# Altium schematic symbol library LABLIB.SchLib: 54 symbols
Pins are listed as number, name and electrical type; pins without a type are passive.

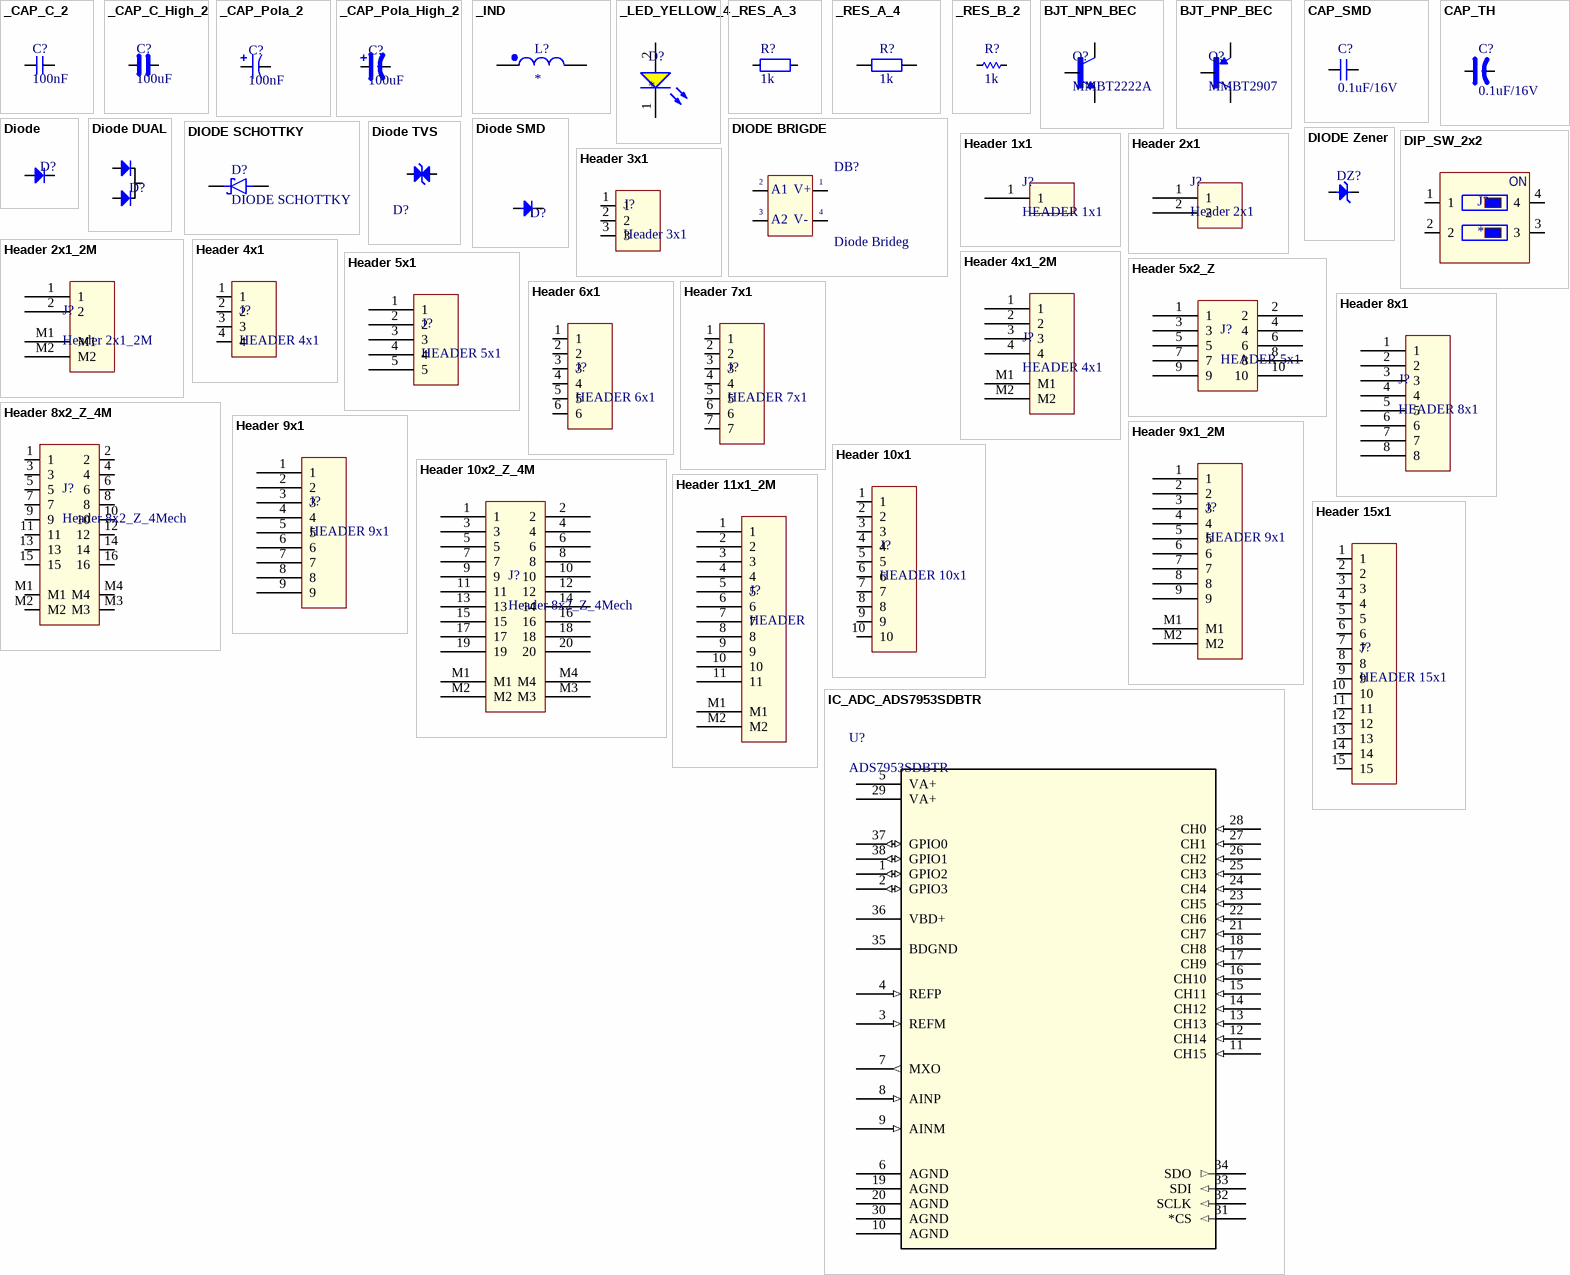
[diagram p0: symbols _CAP_C_2 to IC_ADC_ADS7953SDBTR]

## _CAP_C_2
designator C?, comment 100nF
CAP CHIP
footprint CAP_C_1005X60
footprint CAP_C_1608X80 (Chip Capacitor, 2-Leads, Body 1.60x0.80mm, IPC Medium Density)
footprint CAP_C_2012X110 (Chip Capacitor, 2-Leads, Body 2.00x1.25mm, IPC High Density)
footprint CAP_C_3216X140 (Chip Capacitor, 2-Leads, Body 3.20x1.60mm, IPC High Density)
footprint CAP_C_3225X80 (Chip Capacitor, 2-Leads, Body 3.20x2.50mm, IPC Medium Density)
pins: 1, 2

## _CAP_C_High_2
designator C?, comment 100uF
CAP CHIP High Value
footprint CAP_C_1005X60
footprint CAP_C_1608X80 (Chip Capacitor, 2-Leads, Body 1.60x0.80mm, IPC Medium Density)
footprint CAP_C_2012X110 (Chip Capacitor, 2-Leads, Body 2.00x1.25mm, IPC High Density)
footprint CAP_C_3216X140 (Chip Capacitor, 2-Leads, Body 3.20x1.60mm, IPC High Density)
footprint CAP_C_3225X80 (Chip Capacitor, 2-Leads, Body 3.20x2.50mm, IPC Medium Density)
pins: 1, 2

## _CAP_Pola_2
designator C?, comment 100nF
CAP Polarization
footprint CAP_MP_1608X90 (Molded Capacitor, 2-Leads, Body 1.60x0.85mm, IPC Medium Density)
footprint CAP_MP_2012X170 (Molded Capacitor, 2-Leads, Body 2.05x1.40mm, IPC Medium Density)
pins: 1, 2

## _CAP_Pola_High_2
designator C?, comment 100uF
CAP Polarization High Value
footprint CAP_MP_3216X180 (Molded Capacitor, 2-Leads, Body 3.20x1.65mm, IPC Medium Density)
footprint CAP_MP_1608X90 (Molded Capacitor, 2-Leads, Body 1.60x0.85mm, IPC Medium Density)
footprint CAP_MP_2012X170 (Molded Capacitor, 2-Leads, Body 2.05x1.40mm, IPC Medium Density)
footprint CAP_MP_3528X210 (Molded Capacitor, 2-Leads, Body 3.50x2.85mm, IPC Medium Density)
pins: 1, 2

## _IND
designator L?
pins: 1, 2

## _LED_YELLOW_4
designator D?
footprint LED_0603
pins: 1 K, 2 A

## _RES_A_3
designator R?, comment 1k
RES
footprint RES_C_1608X60 (Chip Resistor, 2-Leads, Body 1.63x0.83mm, IPC High Density)
footprint RES_C_1005X40
footprint RES_C_2012X65 (Chip Resistor, 2-Leads, Body 2.00x1.25mm, IPC High Density)
footprint RES_C_3216X70 (Chip Resistor, 2-Leads, Body 3.20x1.60mm, IPC Medium Density)
pins: 1, 2

## _RES_A_4
designator R?, comment 1k
RES
footprint RES_C_1608X60 (Chip Resistor, 2-Leads, Body 1.63x0.83mm, IPC High Density)
footprint RES_C_1005X40
footprint RES_C_2012X65 (Chip Resistor, 2-Leads, Body 2.00x1.25mm, IPC High Density)
footprint RES_C_3216X70 (Chip Resistor, 2-Leads, Body 3.20x1.60mm, IPC Medium Density)
pins: 1, 2

## _RES_B_2
designator R?, comment 1k
RES
footprint RES_C_1005X40
footprint RES_C_1608X60 (Chip Resistor, 2-Leads, Body 1.63x0.83mm, IPC High Density)
footprint RES_C_2012X65 (Chip Resistor, 2-Leads, Body 2.00x1.25mm, IPC High Density)
footprint RES_C_3216X70 (Chip Resistor, 2-Leads, Body 3.20x1.60mm, IPC Medium Density)
pins: 1, 2

## BJT_NPN_BEC
designator Q?, comment MMBT2222A
MF: Diotec Semiconductor; SnapEDA_Link: https://www.snapeda.com/parts/MMBT2222A/Diotec/view-part/?ref=snap; Package: SOT-23 Diotec; Value: *; MP: MMBT2222A; Check_prices: https://www.snapeda.com/parts/MMBT2222A/Diotec/view-part/?ref=eda
footprint SOT95P240X120-3N
pins: 1 B, 2 E, 3 C

## BJT_PNP_BEC
designator Q?, comment MMBT2907
MF: Diotec Semiconductor; MP: MMBT2222A; SnapEDA_Link: https://www.snapeda.com/parts/MMBT2222A/Diotec/view-part/?ref=snap; Package: SOT-23 Diotec; Value: *; Check_prices: https://www.snapeda.com/parts/MMBT2222A/Diotec/view-part/?ref=eda
footprint SOT95P240X120-3N
pins: 1 B, 2 E, 3 C

## CAP_SMD
designator C?, comment 0.1uF/16V
CAP_Chip; Value: 33pF
pins: 1, 2

## CAP_TH
designator C?, comment 0.1uF/16V
CAP_Polarization; Published: 8-Jun-2000; LatestRevisionDate: 17-Jul-2002; LatestRevisionNote: Re-released for DXP Platform.; PackageReference: POLAR0.8; Publisher: Altium Limited
pins: 1, 2
1 alternate drawing of the same symbol

## Diode
designator D?  (value not drawn)
Default Diode; Code - JEDEC: DO-214-AB; Value: 1N5007; Published: 8-Jun-2000; Revision: July-2002: Re-released for DXP Platform.; Publisher: Altium Limited
footprint DIO-1A
footprint DIO-0.5A-SMALL (Diode muoi, W 80mil, L 300mil)
footprint DIO-1A-SMALL (Diode 1A, W 100mil, L 350mil)
footprint DIO-2A (Diode 2A, W 150mil, L 450mil)
footprint DIO-5A (Diode 5A, W 200mil, L 550mil)
footprint DIO-5AN (Diode 5A, W 200mil, L 250mil)
footprint DIO-1AN (Diode 1A, W 100mil, L 150mil)
footprint DIO-3A (Diode 3A)
footprint DIO-2A - LONG (Diode 2A, W 150mil, L 450mil)
footprint DIO-2AN (Diode 2A, W 150mil, L 450mil)
footprint DIO-5A - LONG (Diode 5A, W 200mil, L 550mil)
footprint DIO-7A-SMALL (Diode 7A)
pins: 1 A, 2 K

## DIODE BRIGDE
designator DB?, comment Diode Brideg
Convert AC to DC voltage, 4 pin; Value: Cau 1A
footprint DIO-Bri 5A (Brigde 5A)
footprint DIO-Bri 1A
footprint DIO-Bri 2A (CAU 2A DET)
footprint DIO-BRI 35A (35A/1000V)
footprint DIO-Bri 10A (Brigde 10A)
footprint DIO-Bri 6A (Brigde 6A)
footprint DIO-Bri 8A (Brigde 8A)
footprint MB6S
pins: 1 +V OUT, 2 AC1, 3 AC2, 4 -V OUT
text: A1; V+; A2; V-

## Diode DUAL
designator D?  (value not drawn)
Default Diode; Code - JEDEC: DO-214-AB; Value: 1N5007; Published: 8-Jun-2000; Revision: July-2002: Re-released for DXP Platform.; Publisher: Altium Limited
footprint TO252-123
footprint TO220H2 (TO-220 - 1-2-3)
footprint TO220H1 (TO-220 - 1-2-3)
footprint TO220H3 (TO-220 1-2-3)
footprint TO247
footprint TO220-123 (TO-220 - 1-2-3)
footprint TO247+LageHeatsink
pins: 1, 2, 3

## DIODE SCHOTTKY
designator D?
pins: 1 K, 2 A

## Diode SMD
designator D?
Default Diode; Code - JEDEC: DO-214-AB; Value: 1N5007; Published: 8-Jun-2000; Revision: July-2002: Re-released for DXP Platform.; Publisher: Altium Limited
footprint DIO-SMD-106
footprint DIO-SMD-123
footprint DIO-SMD-A
footprint DIO-SMD-B (Magnetic-Core Inductor with Winding Polarity Marking; 2 Leads)
footprint DIO-SMD-216AA (DO216AA ST-MITE)
footprint DIO-SMD-222AA (DO216AA ST-MITE)
footprint DIO-SMD-C
footprint DIO-SMD-323
pins: 1 A, 2 K

## Diode TVS
designator D?
TVS Diode; Code - JEDEC: DO-214-AB; Value: 1N5007; Published: 8-Jun-2000; Revision: July-2002: Re-released for DXP Platform.; Publisher: Altium Limited
footprint DIO-SMD-106
footprint DIO-SMD-123
footprint DIO-SMD-A
footprint DIO-SMD-B (Magnetic-Core Inductor with Winding Polarity Marking; 2 Leads)
footprint DIO-SMD-216AA (DO216AA ST-MITE)
footprint DIO-SMD-222AA (DO216AA ST-MITE)
footprint DIO-SMD-C
footprint DIO-SMD-323
pins: 1 A, 2 K

## DIODE Zener
designator DZ?
Zenner
footprint DIO-0.5A-SMALL (Diode muoi, W 80mil, L 300mil)
footprint DIO-1A
footprint DIO-1A-SMALL (Diode 1A, W 100mil, L 350mil)
footprint DIO-1AN (Diode 1A, W 100mil, L 150mil)
footprint DIO-2A (Diode 2A, W 150mil, L 450mil)
footprint DIO-2A - LONG (Diode 2A, W 150mil, L 450mil)
footprint DIO-1A-ZEN (Diode 1A, W 100mil, L 350mil)
footprint DIO-2A-ZEN
pins: 1 A, 2 K

## DIP_SW_2x2
designator J?
pins: 1, 2, 3, 4
text: ON

## Header 1x1
designator J?, comment HEADER 1x1
pins: 1

## Header 2x1
designator J?
footprint JST_B2B-XH-A
footprint JP2-D1T
pins: 1, 2

## Header 2x1_2M
designator J?
footprint JST_B2B-XH-A
footprint JP2-D1T
pins: 1, 2, M1, M2

## Header 3x1
designator J?
pins: 1, 2, 3

## Header 4x1
designator J?, comment HEADER 4x1
pins: 1, 2, 3, 4

## Header 4x1_2M
designator J?, comment HEADER 4x1
pins: 1, 2, 3, 4, M1, M2

## Header 5x1
designator J?, comment HEADER 5x1
pins: 1, 2, 3, 4, 5

## Header 5x2_Z
designator J?, comment HEADER 5x1
pins: 1, 2, 3, 4, 5, 6, 7, 8, 9, 10

## Header 6x1
designator J?, comment HEADER 6x1
pins: 1, 2, 3, 4, 5, 6

## Header 7x1
designator J?, comment HEADER 7x1
pins: 1, 2, 3, 4, 5, 6, 7

## Header 8x1
designator J?, comment HEADER 8x1
pins: 1, 2, 3, 4, 5, 6, 7, 8

## Header 8x2_Z_4M
designator J?, comment Header 8x2_Z_4Mech
Header 8x2 Zigzag pin_4Mech
pins: 1, 2, 3, 4, 5, 6, 7, 8, 9, 10, 11, 12, 13, 14, 15, 16, M1, M2, M3, M4

## Header 9x1
designator J?, comment HEADER 9x1
pins: 1, 2, 3, 4, 5, 6, 7, 8, 9

## Header 9x1_2M
designator J?, comment HEADER 9x1
pins: 1, 2, 3, 4, 5, 6, 7, 8, 9, M1, M2

## Header 10x1
designator J?, comment HEADER 10x1
pins: 1, 2, 3, 4, 5, 6, 7, 8, 9, 10

## Header 10x2_Z_4M
designator J?, comment Header 8x2_Z_4Mech
Header 8x2 Zigzag pin_4Mech
pins: 1, 2, 3, 4, 5, 6, 7, 8, 9, 10, 11, 12, 13, 14, 15, 16, 17, 18, 19, 20, M1, M2, M3, M4

## Header 11x1_2M
designator J?, comment HEADER
pins: 1, 2, 3, 4, 5, 6, 7, 8, 9, 10, 11, M1, M2

## Header 15x1
designator J?, comment HEADER 15x1
pins: 1, 2, 3, 4, 5, 6, 7, 8, 9, 10, 11, 12, 13, 14, 15

## IC_ADC_ADS7953SDBTR
designator U?, comment ADS7953SDBTR
12-Bit, 1-MSPS, 16-Channel, Single-Ended, microPower SAR ADC with Serial I/F 38-TSSOP -40 to 125; Manufacturer_Name: Texas Instruments; Copyright: Copyright (C) 2025 Ultra Librarian. All rights reserved.; Manufacturer_Part_Number: ADS7953SDBTR; Datasheet: https://www.ti.com/lit/gpn/ads7953; RefDes: RefDes; Type: Type
footprint DBT38
pins: 1 GPIO2 (io), 2 GPIO3 (io), 3 REFM (in), 4 REFP (in), 5 VA+ (power), 6 AGND (power), 7 MXO (out), 8 AINP (in), 9 AINM (in), 10 AGND (power), 11 CH15 (in), 12 CH14 (in), 13 CH13 (in), 14 CH12 (in), 15 CH11 (in), 16 CH10 (in), 17 CH9 (in), 18 CH8 (in), 19 AGND (power), 20 AGND (power), 21 CH7 (in), 22 CH6 (in), 23 CH5 (in), 24 CH4 (in), 25 CH3 (in), 26 CH2 (in), 27 CH1 (in), 28 CH0 (in), 29 VA+ (power), 30 AGND (power), 31 *CS (in), 32 SCLK (in), 33 SDI (in), 34 SDO (out), 35 BDGND (power), 36 VBD+ (power), 37 GPIO0 (io), 38 GPIO1 (io)

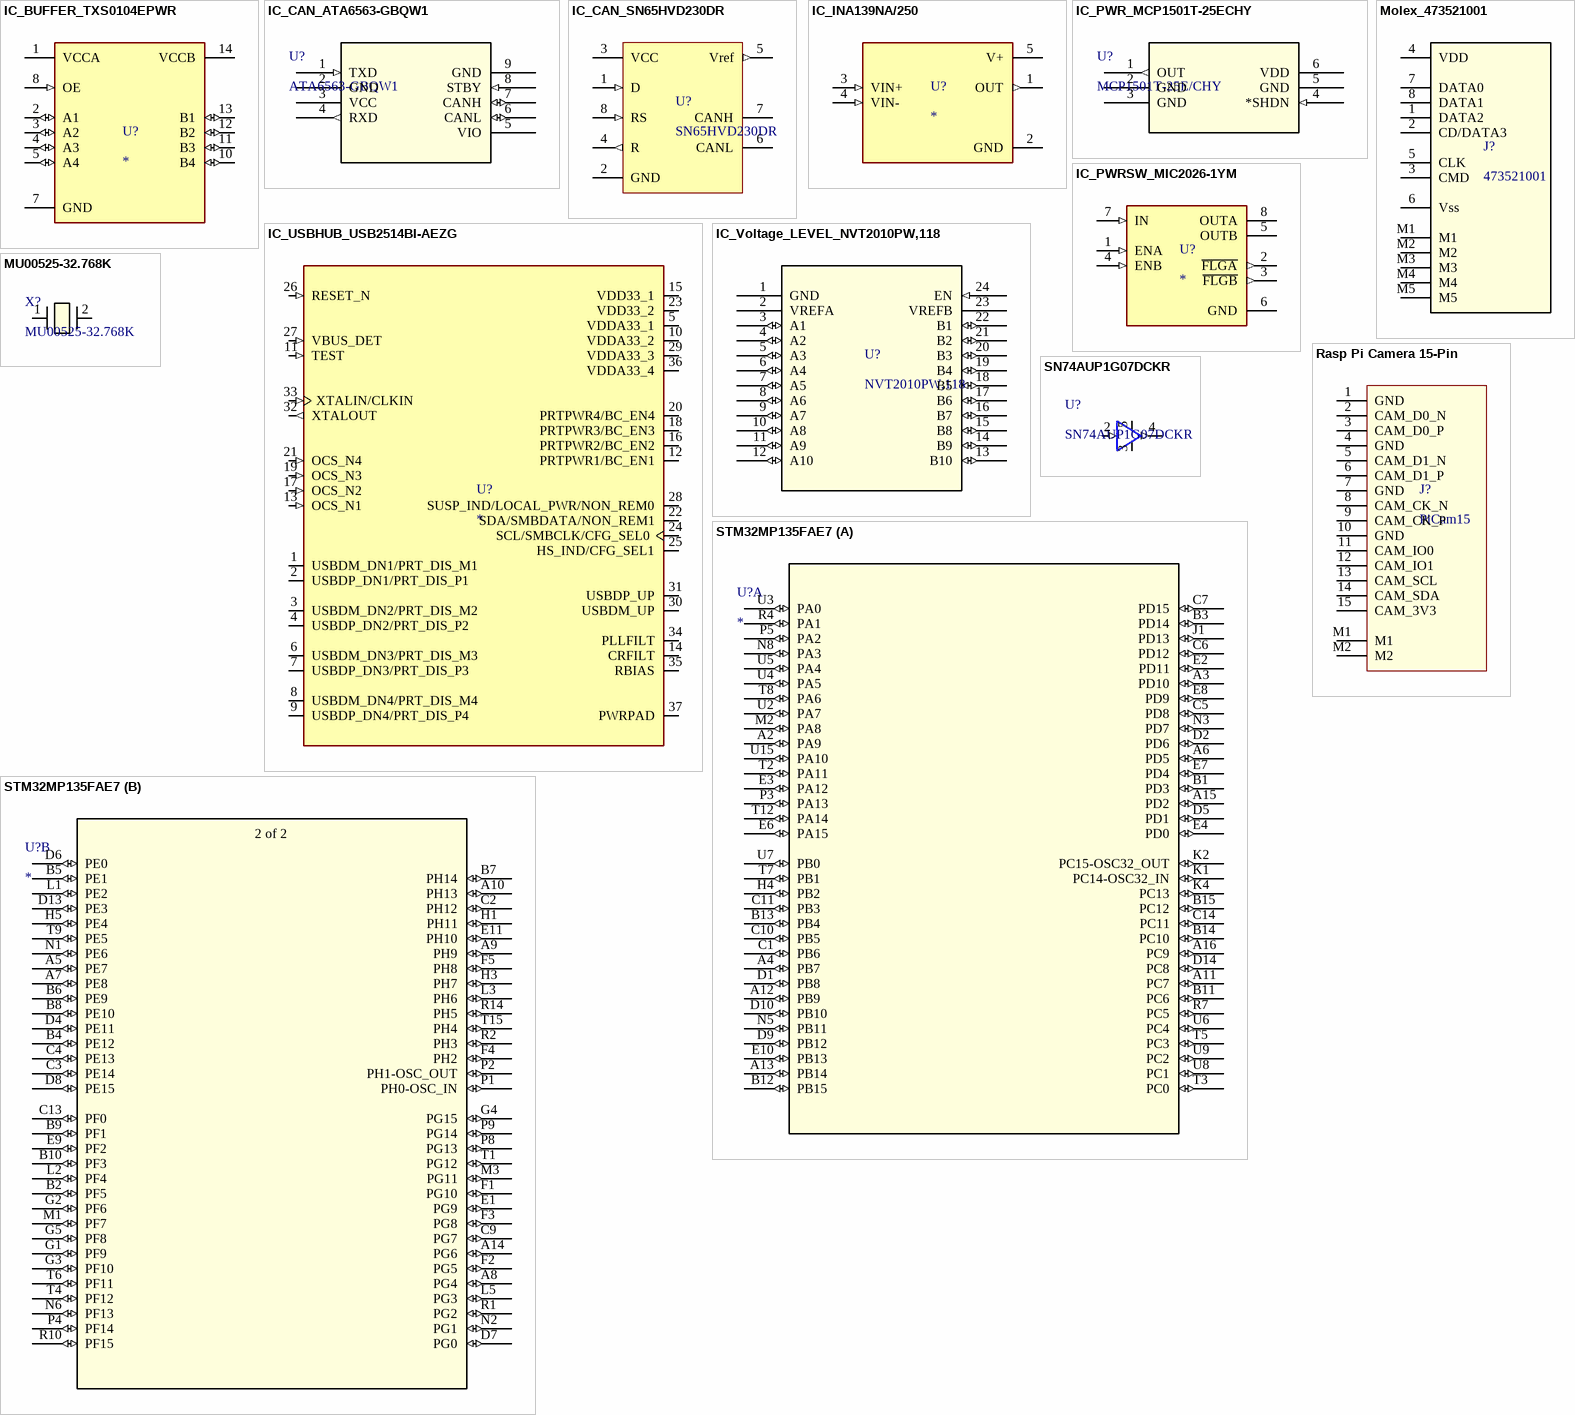
[diagram p1: symbols IC_BUFFER_TXS0104EPWR to STM32MP135FAE7]

## IC_BUFFER_TXS0104EPWR
designator U?
Four-bit bidirectional voltage-level shifter for open-drain and push-pull applications; MF: Texas Instruments; MP: TXS0104EPWR; SnapEDA_Link: https://www.snapeda.com/parts/TXS0104EPWR/Texas+Instruments/view-part/?ref=snap; Package: TSSOP-14 Texas Instruments; Value: *; Check_prices: https://www.snapeda.com/parts/TXS0104EPWR/Texas+Instruments/view-part/?ref=eda
footprint SOP65P640X120-14N
pins: 1 VCCA (power), 2 A1 (io), 3 A2 (io), 4 A3 (io), 5 A4 (io), 7 GND (power), 8 OE (in), 10 B4 (io), 11 B3 (io), 12 B2 (io), 13 B1 (io), 14 VCCB (power)

## IC_CAN_ATA6563-GBQW1
designator U?, comment ATA6563-GBQW1
No Description Available; Manufacturer_Name: Microchip; Copyright: Copyright (C) 2025 Ultra Librarian. All rights reserved.; Manufacturer_Part_Number: ATA6563-GBQW1; RefDes: RefDes; Type: Type
footprint VDFN8_3X3_GB-Q8B_MCH
pins: 1 TXD (in), 2 GND (power), 3 VCC (power), 4 RXD (out), 5 VIO (power), 6 CANL (io), 7 CANH (io), 8 STBY (in), 9 GND (power)

## IC_CAN_SN65HVD230DR
designator U?, comment SN65HVD230DR
IC TRANSCEIVER HALF 1/1 8SOIC
pins: 1 D (in), 2 GND, 3 VCC, 4 R (out), 5 Vref (out), 6 CANL, 7 CANH, 8 RS (in)

## IC_INA139NA/250
designator U?
2.7 to 36V, 440kHz Variable gain current sense amplifier; MF: Texas Instruments; MP: INA139NA/250; SnapEDA_Link: https://www.snapeda.com/parts/INA139NA/250/Texas+Instruments/view-part/?ref=snap; Package: SOT-23-5 Texas Instruments; Value: *; Check_prices: https://www.snapeda.com/parts/INA139NA/250/Texas+Instruments/view-part/?ref=eda
footprint SOT95P280X145-5N
pins: 1 OUT (out), 2 GND (power), 3 VIN+ (in), 4 VIN- (in), 5 V+ (power)

## IC_PWR_MCP1501T-25ECHY
designator U?, comment MCP1501T-25E/CHY
No Description Available; Manufacturer_Name: Microchip; Copyright: Copyright (C) 2025 Ultra Librarian. All rights reserved.; Manufacturer_Part_Number: MCP1501T-25E/CHY; RefDes: RefDes; Type: Type
footprint SOT-23_OTOTY_MCH
pins: 1 OUT (out), 2 GND (power), 3 GND (power), 4 *SHDN (in), 5 GND (power), 6 VDD (power)

## IC_PWRSW_MIC2026-1YM
designator U?
Power Switch/Driver 1:2 N-Channel 1.25A 8-SOIC; MF: Microchip; MP: MIC2026-1YM; SnapEDA_Link: https://www.snapeda.com/parts/MIC2026-1YM/Microchip/view-part/?ref=snap; Package: SO-8 Microchip; Value: *; Check_prices: https://www.snapeda.com/parts/MIC2026-1YM/Microchip/view-part/?ref=eda
footprint SOIC127P599X173-8N
pins: 1 ENA (in), 2 ~{FLGA} (out), 3 ~{FLGB} (out), 4 ENB (in), 5 OUTB, 6 GND (power), 7 IN (in), 8 OUTA

## IC_USBHUB_USB2514BI-AEZG
designator U?
USB Hub Controller USB 2.0 USB Interface 36-QFN (6x6); MF: Microchip; MP: USB2514BI-AEZG-TR; SnapEDA_Link: https://www.snapeda.com/parts/USB2514BI-AEZG-TR/Microchip/view-part/?ref=snap; Package: VQFN-36 Microchip; Value: *; Check_prices: https://www.snapeda.com/parts/USB2514BI-AEZG-TR/Microchip/view-part/?ref=eda
footprint QFN50P600X600X100-37N
pins: 1 USBDM_DN1/PRT_DIS_M1 (io), 2 USBDP_DN1/PRT_DIS_P1 (io), 3 USBDM_DN2/PRT_DIS_M2 (io), 4 USBDP_DN2/PRT_DIS_P2 (io), 5 VDDA33_1 (power), 6 USBDM_DN3/PRT_DIS_M3 (io), 7 USBDP_DN3/PRT_DIS_P3 (io), 8 USBDM_DN4/PRT_DIS_M4 (io), 9 USBDP_DN4/PRT_DIS_P4 (io), 10 VDDA33_2 (power), 11 TEST (in), 12 PRTPWR1/BC_EN1 (io), 13 OCS_N1 (in), 14 CRFILT, 15 VDD33_1 (power), 16 PRTPWR2/BC_EN2 (io), 17 OCS_N2 (in), 18 PRTPWR3/BC_EN3 (io), 19 OCS_N3 (in), 20 PRTPWR4/BC_EN4 (io), 21 OCS_N4 (in), 22 SDA/SMBDATA/NON_REM1 (io), 23 VDD33_2 (power), 24 SCL/SMBCLK/CFG_SEL0 (io), 25 HS_IND/CFG_SEL1 (io), 26 RESET_N (in), 27 VBUS_DET (in), 28 SUSP_IND/LOCAL_PWR/NON_REM0 (io), 29 VDDA33_3 (power), 30 USBDM_UP (io), 31 USBDP_UP (io), 32 XTALOUT (out), 33 XTALIN/CLKIN (in), 34 PLLFILT, 35 RBIAS, 36 VDDA33_4 (power), 37 PWRPAD (power)

## IC_Voltage_LEVEL_NVT2010PW,118
designator U?, comment NVT2010PW,118
No Description Available; Manufacturer_Name: NXP; Copyright: Copyright (C) 2025 Ultra Librarian. All rights reserved.; Manufacturer_Part_Number: NVT2010PW,118; RefDes: RefDes; Type: Type
footprint TSSOP24_SOT355-1_NXP
pins: 1 GND (power), 2 VREFA (power), 3 A1 (io), 4 A2 (io), 5 A3 (io), 6 A4 (io), 7 A5 (io), 8 A6 (io), 9 A7 (io), 10 A8 (io), 11 A9 (io), 12 A10 (io), 13 B10 (io), 14 B9 (io), 15 B8 (io), 16 B7 (io), 17 B6 (io), 18 B5 (io), 19 B4 (io), 20 B3 (io), 21 B2 (io), 22 B1 (io), 23 VREFB (power), 24 EN (in)

## Molex_473521001
designator J?, comment 473521001
1.10mm Pitch microSD Card Connector, Push-Push Type, with VSS (Supply Voltage Ground) Detect Switch, Lead-Free; Manufacturer_Name: Molex Connector Corporation; Copyright: Copyright (C) 2025 Ultra Librarian. All rights reserved.; Manufacturer_Part_Number: 473521001; Datasheet: https://www.molex.com/en-us/products/part-detail-pdf/473521001?display=pdf; RefDes: RefDes; Type: Type
footprint CON00878_8_MOL
footprint Molex_0473521001
pins: 1 DATA2, 2 CD/DATA3, 3 CMD, 4 VDD, 5 CLK, 6 Vss, 7 DATA0, 8 DATA1, M1, M2, M3, M4, M5

## MU00525-32.768K
designator X?
Description; Manufacturer_Name: NDK; Type: Crystals; Copyright: Copyright (C) 2025 Ultra Librarian. All rights reserved.; Manufacturer_Part_Number: MU00525-32.768K
footprint XTAL_MU00525_NDK
pins: 1, 2

## Rasp Pi Camera 15-Pin
designator J?, comment PiCam15
Rasp Pi Camera 15-Pin
pins: 1 GND, 2 CAM_D0_N, 3 CAM_D0_P, 4 GND, 5 CAM_D1_N, 6 CAM_D1_P, 7 GND, 8 CAM_CK_N, 9 CAM_CK_P, 10 GND, 11 CAM_IO0, 12 CAM_IO1, 13 CAM_SCL, 14 CAM_SDA, 15 CAM_3V3, M1, M2

## SN74AUP1G07DCKR
designator U?
Single 0.8-V to 3.6-V low power buffer with open-drain outputs 5-SC70 -40 to 85; Manufacturer_Name: Texas Instruments; Copyright: Copyright (C) 2025 Ultra Librarian. All rights reserved.; Manufacturer_Part_Number: SN74AUP1G07DCKR; Datasheet: https://www.ti.com/lit/gpn/sn74aup1g07; RefDes: RefDes; Type: Type
footprint DCK5
pins: 2 A (in), 3 GND (power), 4 Y (out), 5 VCC (power)

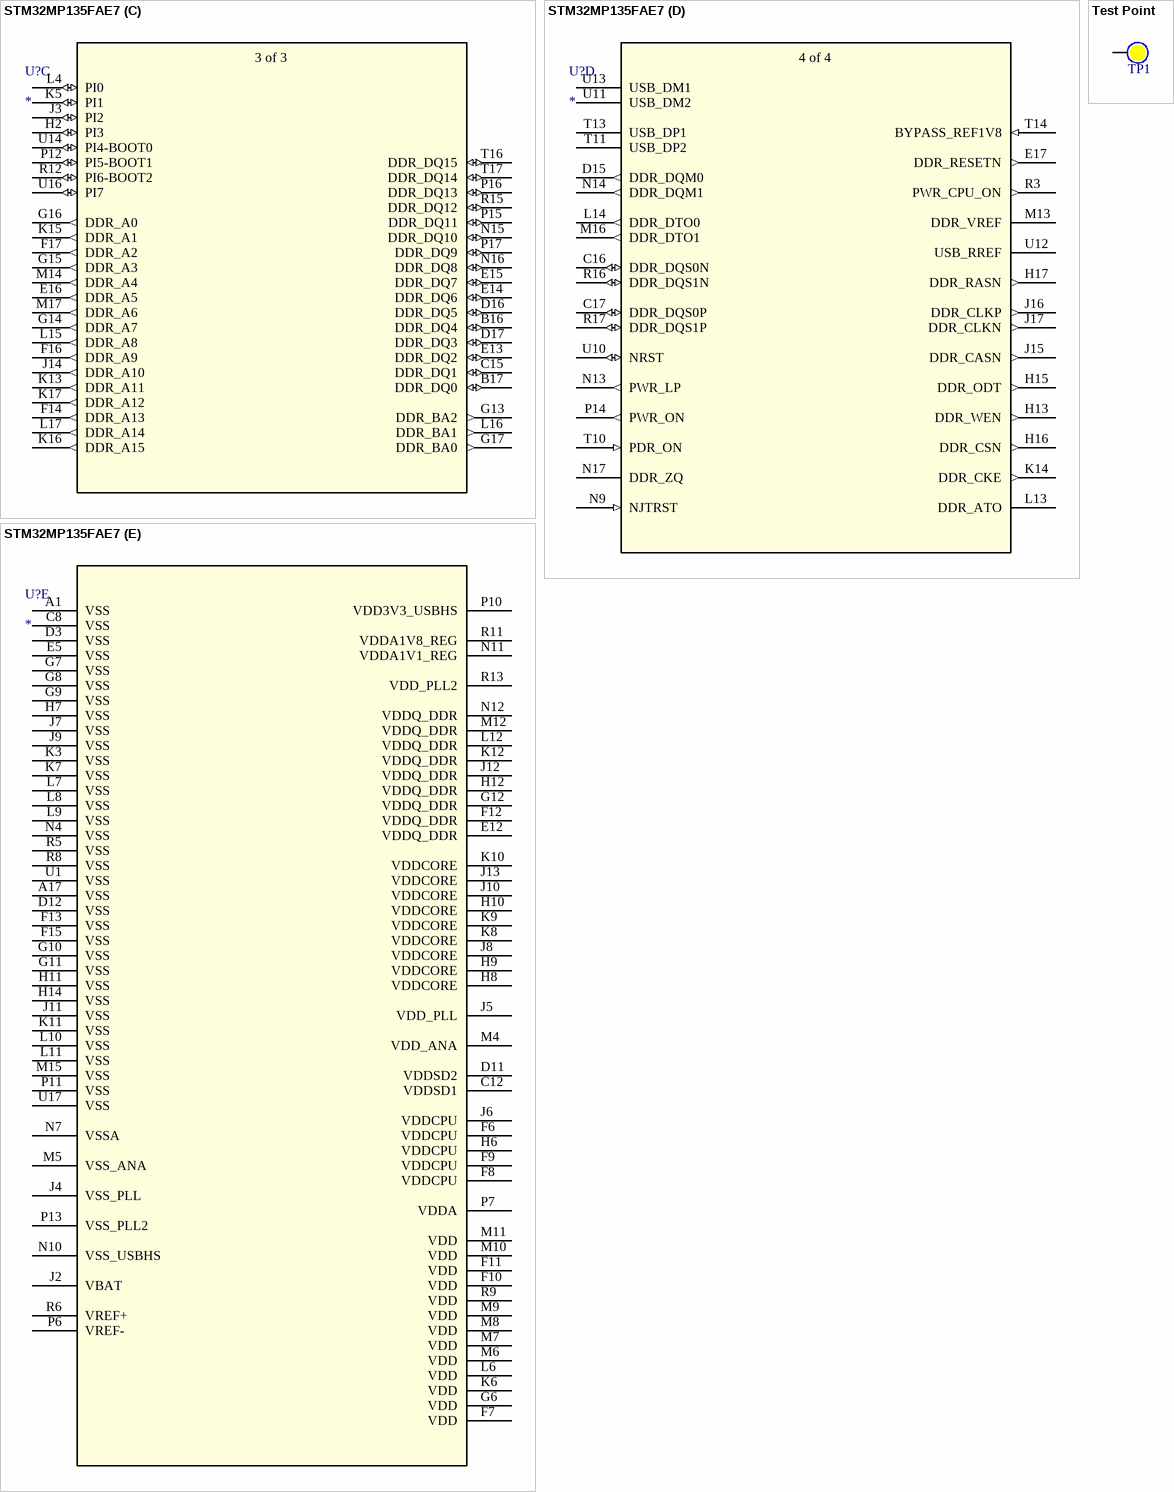
[diagram p2: symbols STM32MP135FAE7 to Test Point]

## STM32MP135FAE7
designator U?
No Description Available; Mfr_Name: STMicroelectronics; RefDes: RefDes; Type: Type
footprint LFBGA289_14X14_STM
part A pins: A2 PA9 (io), A3 PD10 (io), A4 PB7 (io), A6 PD5 (io), A11 PC7 (io), A12 PB9 (io), A13 PB14 (io), A15 PD2 (io), A16 PC9 (io), B1 PD3 (io), B3 PD14 (io), B11 PC6 (io), B12 PB15 (io), B13 PB4 (io), B14 PC10 (io), B15 PC12 (io), C1 PB6 (io), C5 PD8 (io), C6 PD12 (io), C7 PD15 (io), C10 PB5 (io), C11 PB3 (io), C14 PC11 (io), D1 PB8 (io), D2 PD6 (io), D5 PD1 (io), D9 PB12 (io), D10 PB10 (io), D14 PC8 (io), E2 PD11 (io), E3 PA12 (io), E4 PD0 (io), E6 PA15 (io), E7 PD4 (io), E8 PD9 (io), E10 PB13 (io), H4 PB2 (io), J1 PD13 (io), K1 PC14-OSC32_IN (io), K2 PC15-OSC32_OUT (io), K4 PC13 (io), M2 PA8 (io), N3 PD7 (io), N5 PB11 (io), N8 PA3 (io), P3 PA13 (io), P5 PA2 (io), R4 PA1 (io), R7 PC5 (io), T2 PA11 (io), T3 PC0 (io), T5 PC3 (io), T7 PB1 (io), T8 PA6 (io), T12 PA14 (io), U2 PA7 (io), U3 PA0 (io), U4 PA5 (io), U5 PA4 (io), U6 PC4 (io), U7 PB0 (io), U8 PC1 (io), U9 PC2 (io), U15 PA10 (io)
part B pins: A5 PE7 (io), A7 PE8 (io), A8 PG4 (io), A9 PH9 (io), A10 PH13 (io), A14 PG6 (io), B2 PF5 (io), B4 PE12 (io), B5 PE1 (io), B6 PE9 (io), B7 PH14 (io), B8 PE10 (io), B9 PF1 (io), B10 PF3 (io), C2 PH12 (io), C3 PE14 (io), C4 PE13 (io), C9 PG7 (io), C13 PF0 (io), D4 PE11 (io), D6 PE0 (io), D7 PG0 (io), D8 PE15 (io), D13 PE3 (io), E1 PG9 (io), E9 PF2 (io), E11 PH10 (io), F1 PG10 (io), F2 PG5 (io), F3 PG8 (io), F4 PH2 (io), F5 PH8 (io), G1 PF9 (io), G2 PF6 (io), G3 PF10 (io), G4 PG15 (io), G5 PF8 (io), H1 PH11 (io), H3 PH7 (io), H5 PE4 (io), L1 PE2 (io), L2 PF4 (io), L3 PH6 (io), L5 PG3 (io), M1 PF7 (io), M3 PG11 (io), N1 PE6 (io), N2 PG1 (io), N6 PF13 (io), P1 PH0-OSC_IN (io), P2 PH1-OSC_OUT (io), P4 PF14 (io), P8 PG13 (io), P9 PG14 (io), R1 PG2 (io), R2 PH3 (io), R10 PF15 (io), R14 PH5 (io), T1 PG12 (io), T4 PF12 (io), T6 PF11 (io), T9 PE5 (io), T15 PH4 (io)
part C pins: B16 DDR_DQ4 (io), B17 DDR_DQ0 (io), C15 DDR_DQ1 (io), D16 DDR_DQ5 (io), D17 DDR_DQ3 (io), E13 DDR_DQ2 (io), E14 DDR_DQ6 (io), E15 DDR_DQ7 (io), E16 DDR_A5 (out), F14 DDR_A13 (out), F16 DDR_A9 (out), F17 DDR_A2 (out), G13 DDR_BA2 (out), G14 DDR_A7 (out), G15 DDR_A3 (out), G16 DDR_A0 (out), G17 DDR_BA0 (out), H2 PI3 (io), J3 PI2 (io), J14 DDR_A10 (out), K5 PI1 (io), K13 DDR_A11 (out), K15 DDR_A1 (out), K16 DDR_A15 (out), K17 DDR_A12 (out), L4 PI0 (io), L15 DDR_A8 (out), L16 DDR_BA1 (out), L17 DDR_A14 (out), M14 DDR_A4 (out), M17 DDR_A6 (out), N15 DDR_DQ10 (io), N16 DDR_DQ8 (io), P12 PI5-BOOT1 (io), P15 DDR_DQ11 (io), P16 DDR_DQ13 (io), P17 DDR_DQ9 (io), R12 PI6-BOOT2 (io), R15 DDR_DQ12 (io), T16 DDR_DQ15 (io), T17 DDR_DQ14 (io), U14 PI4-BOOT0 (io), U16 PI7 (io)
part D pins: C16 DDR_DQS0N (io), C17 DDR_DQS0P (io), D15 DDR_DQM0 (out), E17 DDR_RESETN (out), H13 DDR_WEN (out), H15 DDR_ODT (out), H16 DDR_CSN (out), H17 DDR_RASN (out), J15 DDR_CASN (out), J16 DDR_CLKP (out), J17 DDR_CLKN (out), K14 DDR_CKE (out), L13 DDR_ATO, L14 DDR_DTO0 (out), M13 DDR_VREF (power), M16 DDR_DTO1 (out), N9 NJTRST (in), N13 PWR_LP (out), N14 DDR_DQM1 (out), N17 DDR_ZQ, P14 PWR_ON (out), R3 PWR_CPU_ON (out), R16 DDR_DQS1N (io), R17 DDR_DQS1P (io), T10 PDR_ON (in), T11 USB_DP2, T13 USB_DP1, T14 BYPASS_REF1V8 (in), U10 NRST (io), U11 USB_DM2, U12 USB_RREF, U13 USB_DM1
part E pins: A1 VSS (power), A17 VSS (power), C8 VSS (power), C12 VDDSD1 (power), D3 VSS (power), D11 VDDSD2 (power), D12 VSS (power), E5 VSS (power), E12 VDDQ_DDR (power), F6 VDDCPU (power), F7 VDD (power), F8 VDDCPU (power), F9 VDDCPU (power), F10 VDD (power), F11 VDD (power), F12 VDDQ_DDR (power), F13 VSS (power), F15 VSS (power), G6 VDD (power), G7 VSS (power), G8 VSS (power), G9 VSS (power), G10 VSS (power), G11 VSS (power), G12 VDDQ_DDR (power), H6 VDDCPU (power), H7 VSS (power), H8 VDDCORE (power), H9 VDDCORE (power), H10 VDDCORE (power), H11 VSS (power), H12 VDDQ_DDR (power), H14 VSS (power), J2 VBAT (power), J4 VSS_PLL (power), J5 VDD_PLL (power), J6 VDDCPU (power), J7 VSS (power), J8 VDDCORE (power), J9 VSS (power), J10 VDDCORE (power), J11 VSS (power), J12 VDDQ_DDR (power), J13 VDDCORE (power), K3 VSS (power), K6 VDD (power), K7 VSS (power), K8 VDDCORE (power), K9 VDDCORE (power), K10 VDDCORE (power), K11 VSS (power), K12 VDDQ_DDR (power), L6 VDD (power), L7 VSS (power), L8 VSS (power), L9 VSS (power), L10 VSS (power), L11 VSS (power), L12 VDDQ_DDR (power), M4 VDD_ANA (power), M5 VSS_ANA (power), M6 VDD (power), M7 VDD (power), M8 VDD (power), M9 VDD (power), M10 VDD (power), M11 VDD (power), M12 VDDQ_DDR (power), M15 VSS (power), N4 VSS (power), N7 VSSA (power), N10 VSS_USBHS (power), N11 VDDA1V1_REG (power), N12 VDDQ_DDR (power), P6 VREF- (power), P7 VDDA (power), P10 VDD3V3_USBHS (power), P11 VSS (power), P13 VSS_PLL2 (power), R5 VSS (power), R6 VREF+ (power), R8 VSS (power), R9 VDD (power), R11 VDDA1V8_REG (power), R13 VDD_PLL2 (power), U1 VSS (power), U17 VSS (power)
part B text: 2 of 2
part C text: 3 of 3
part D text: 4 of 4

## Test Point
designator TP1  (no BOM)
Test Point; Solder: NF
footprint Testpoint_50
footprint Testpoint_60
footprint Testpoint_70
footprint Testpoint_80
footprint Testpoint_TH_D130H80
pins: 0